# Altium schematic symbol library XF2M-5015-1A.Schlib: 1 symbol
Pins are listed as number, name and electrical type; pins without a type are passive.

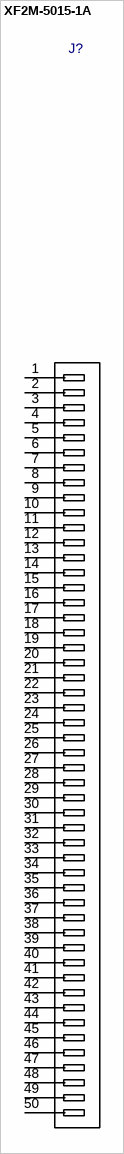
[diagram p0: symbol XF2M-5015-1A]

## XF2M-5015-1A
designator J?
CONN FPC 50POS 0.50MM R/A
pins: 1 (power), 2 (power), 3 (power), 4 (power), 5, 6, 7, 8, 9, 10, 11, 12, 13, 14, 15, 16, 17, 18, 19, 20, 21, 22, 23, 24, 25, 26, 27, 28, 29, 30, 31, 32, 33, 34, 35, 36, 37, 38 XR, 39, 40, 41, 42, 43, 44, 45, 46, 47, 48, 49 19, 50